# EAGLE library part X__JST_PH_LIEGEND_7 (library 16112011___connector)
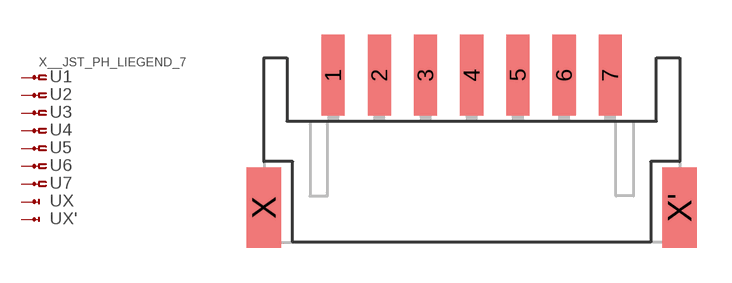
[diagram p14: symbol with the pads of JST_PH_LIEGEND_7; footprint JST_PH_LIEGEND_7]

Designator prefix -; gates 1=PHPIN-NV 2=PHPIN-N 3=PHPIN-N 4=PHPIN-N 5=PHPIN-N 6=PHPIN-N 7=PHPIN-N X=PHPIN-X X'=PHPIN-X

## X__JST_PH_LIEGEND_7  [JST_PH_LIEGEND_7]
1  1:1  pas
2  2:1  pas
3  3:1  pas
4  4:1  pas
5  5:1  pas
6  6:1  pas
7  7:1  pas
X  X:1  pas
X'  X':1  pas

## Footprint JST_PH_LIEGEND_7 (pad centres in mm)
smd 1 x 3.5: 1 0.27,0.08; 2 2.27,0.08; 3 4.27,0.08; 4 6.27,0.08; 5 8.27,0.08; 6 10.27,0.08; 7 12.27,0.08
smd 1.5 x 3.5: X -2.73,-5.67; X' 15.27,-5.67